# Altium integrated library TI Power Management Standard Voltage Regulator.IntLib: 214 symbols (part 6 of 7)
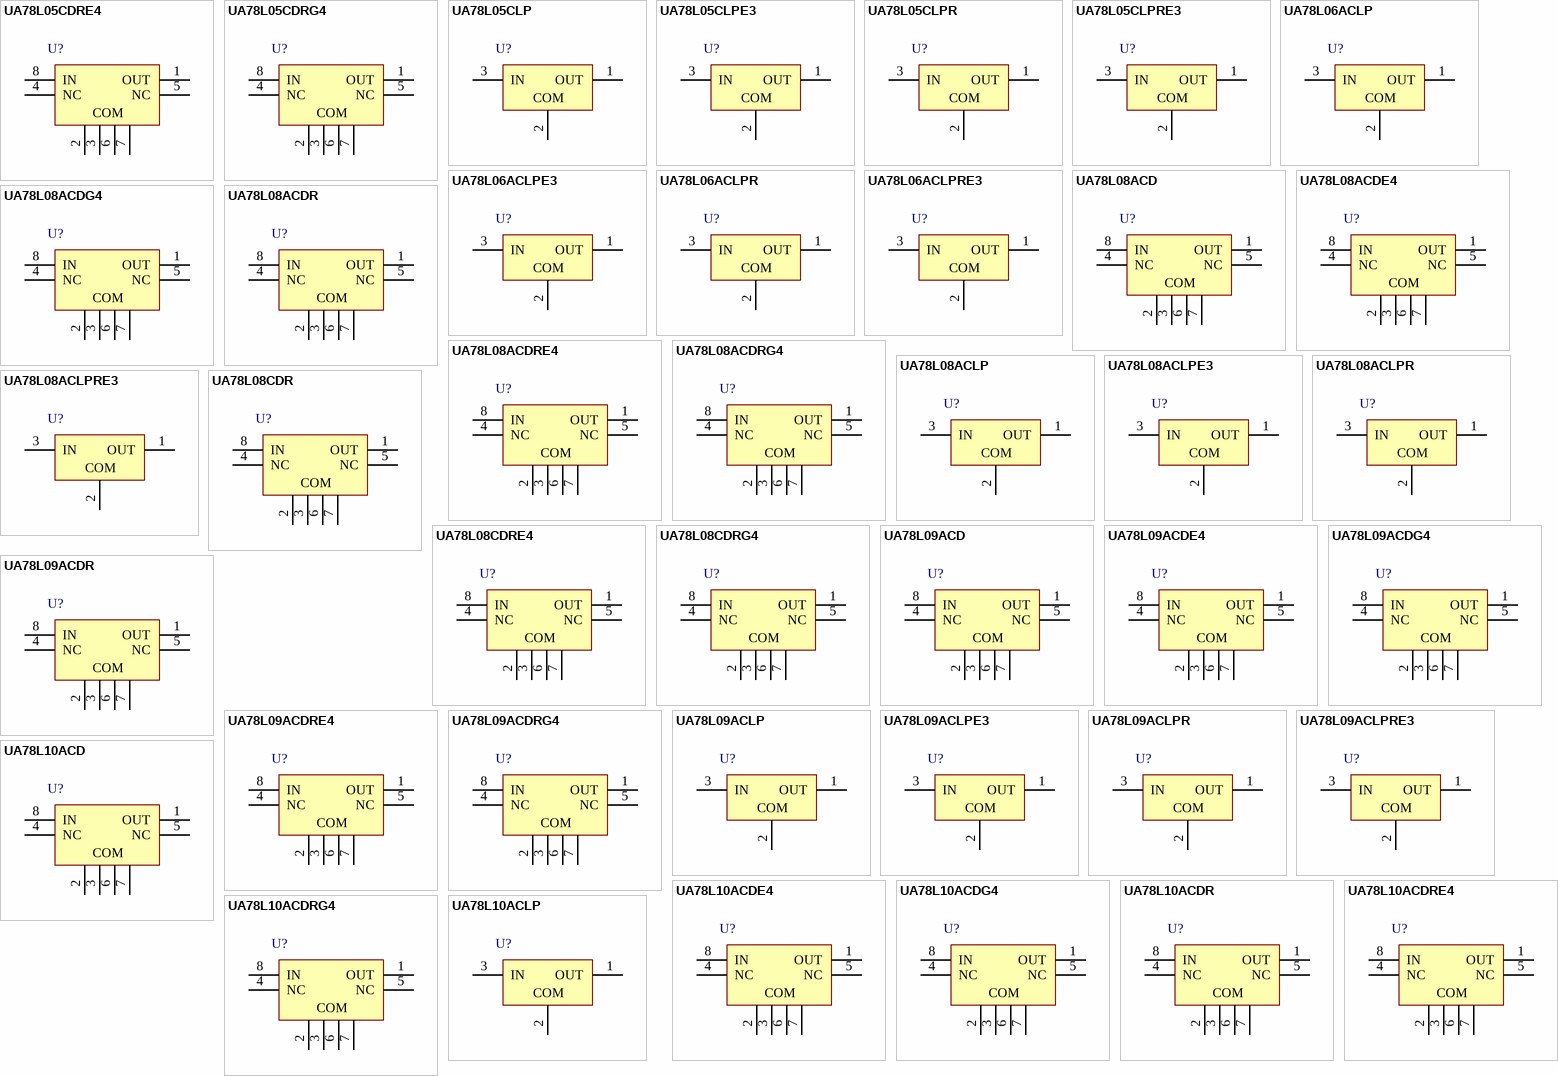
[diagram p11: symbols UA78L05CDRE4 to UA78L10ACLP]

## UA78L10ACDG4
designator U?
Regulator with 12.5 to 25 V Input and 10 V Output, 0 to 125 degC, 8-Pin SOIC (D), Green (RoHS & no Sb/Br); Manufacturer: Texas Instruments; PartNumber: UA78L10ACDG4; Iout(Max)(A): 0.1; Iq(Typ)(mA): 6; Vin(Max)(V): 25; Vin(Min)(V): 12.5; Vout(Max)(V): 10; DatasheetVersion: SLVS010S; PackageVersion: revM, Jun-2011; PackageReference: D8; PackageDescription: 8-Pin Plastic Small Outline Integrated Circuit, 4.9 x 3.9 mm, Pitch 1.27 mm Pitch; Supplier 1: Digi-Key; Supplier Part Number 1: UA78L10ACDG4-ND; Supplier 2: Newark; Supplier Part Number 2: 72K1148; Supplier 3: Mouser; Supplier Part Number 3: 595-UA78L10ACDG4; Eco-Plan: Green (RoHS & no Sb/Br); Vout(Min)(V): 10; Mounting Technology: Surface Mount; Code_JEDEC: MS-012AA; ComponentLink1Description: Datasheet; ComponentLink1URL: http://www.ti.com/general/docs/lit/getliterature.tsp?genericPartNumber=UA78L10A&fileType=pdf; ComponentLink2Description: Package Specification; ComponentLink2URL: http://www.ti.com/litv/pdf/msoi002j; ComponentLink3Description: URL Link1; ComponentLink3URL: Samples URL:http://www.ti.com/product/ua78l10a#samples
footprint D8_N (SOIC, 8-Leads, Body 4.9x3.9mm, Pitch 1.27mm, IPC Medium Density)
footprint D8_L (SOIC, 8-Leads, Body 4.9x3.9mm, Pitch 1.27mm, IPC High Density)
footprint D8_M (SOIC, 8-Leads, Body 4.9x3.9mm, Pitch 1.27mm, IPC Low Density)
pins: 1 OUT (power), 2 GND (power), 3 GND (power), 4 NC, 5 NC, 6 GND (power), 7 GND (power), 8 IN (power)
text: COM

## UA78L10ACDR
designator U?
Regulator with 12.5 to 25 V Input and 10 V Output, 0 to 125 degC, 8-Pin SOIC (D), Green (RoHS & no Sb/Br); Manufacturer: Texas Instruments; PartNumber: UA78L10ACDR; Iout(Max)(A): 0.1; Iq(Typ)(mA): 6; Vin(Max)(V): 25; Vin(Min)(V): 12.5; Vout(Max)(V): 10; DatasheetVersion: SLVS010S; PackageVersion: revM, Jun-2011; PackageReference: D8; PackageDescription: 8-Pin Plastic Small Outline Integrated Circuit, 4.9 x 3.9 mm, Pitch 1.27 mm Pitch; Supplier 1: Digi-Key; Supplier Part Number 1: 296-24391-2-ND; Supplier 2: Digi-Key; Supplier Part Number 2: 296-24391-1-ND; Supplier 3: Digi-Key; Supplier Part Number 3: 296-24391-6-ND; Supplier 4: Newark; Supplier Part Number 4: 77C1876; Supplier 5: Mouser; Supplier Part Number 5: 595-UA78L10ACDR; Eco-Plan: Green (RoHS & no Sb/Br); Vout(Min)(V): 10; Mounting Technology: Surface Mount; Code_JEDEC: MS-012AA; ComponentLink1Description: Datasheet; ComponentLink1URL: http://www.ti.com/general/docs/lit/getliterature.tsp?genericPartNumber=UA78L10A&fileType=pdf; ComponentLink2Description: Package Specification; ComponentLink2URL: http://www.ti.com/litv/pdf/msoi002j; ComponentLink3Description: URL Link1; ComponentLink3URL: Samples URL:http://www.ti.com/product/ua78l10a#samples
footprint D8_N (SOIC, 8-Leads, Body 4.9x3.9mm, Pitch 1.27mm, IPC Medium Density)
footprint D8_L (SOIC, 8-Leads, Body 4.9x3.9mm, Pitch 1.27mm, IPC High Density)
footprint D8_M (SOIC, 8-Leads, Body 4.9x3.9mm, Pitch 1.27mm, IPC Low Density)
pins: 1 OUT (power), 2 GND (power), 3 GND (power), 4 NC, 5 NC, 6 GND (power), 7 GND (power), 8 IN (power)
text: COM

## UA78L10ACDRE4
designator U?
Regulator with 12.5 to 25 V Input and 10 V Output, 0 to 125 degC, 8-Pin SOIC (D), Green (RoHS & no Sb/Br); Manufacturer: Texas Instruments; PartNumber: UA78L10ACDRE4; Iout(Max)(A): 0.1; Iq(Typ)(mA): 6; Vin(Max)(V): 25; Vin(Min)(V): 12.5; Vout(Max)(V): 10; DatasheetVersion: SLVS010S; PackageVersion: revM, Jun-2011; PackageReference: D8; PackageDescription: 8-Pin Plastic Small Outline Integrated Circuit, 4.9 x 3.9 mm, Pitch 1.27 mm Pitch; Supplier 1: Digi-Key; Supplier Part Number 1: UA78L10ACDRE4-ND; Supplier 2: Newark; Supplier Part Number 2: 37K4719; Supplier 3: Mouser; Supplier Part Number 3: 595-UA78L10ACDRE4; Eco-Plan: Green (RoHS & no Sb/Br); Vout(Min)(V): 10; Mounting Technology: Surface Mount; Code_JEDEC: MS-012AA; ComponentLink1Description: Datasheet; ComponentLink1URL: http://www.ti.com/general/docs/lit/getliterature.tsp?genericPartNumber=UA78L10A&fileType=pdf; ComponentLink2Description: Package Specification; ComponentLink2URL: http://www.ti.com/litv/pdf/msoi002j; ComponentLink3Description: URL Link1; ComponentLink3URL: Samples URL:http://www.ti.com/product/ua78l10a#samples
footprint D8_N (SOIC, 8-Leads, Body 4.9x3.9mm, Pitch 1.27mm, IPC Medium Density)
footprint D8_L (SOIC, 8-Leads, Body 4.9x3.9mm, Pitch 1.27mm, IPC High Density)
footprint D8_M (SOIC, 8-Leads, Body 4.9x3.9mm, Pitch 1.27mm, IPC Low Density)
pins: 1 OUT (power), 2 GND (power), 3 GND (power), 4 NC, 5 NC, 6 GND (power), 7 GND (power), 8 IN (power)
text: COM

## UA78L10ACDRG4
designator U?
Regulator with 12.5 to 25 V Input and 10 V Output, 0 to 125 degC, 8-Pin SOIC (D), Green (RoHS & no Sb/Br); Manufacturer: Texas Instruments; PartNumber: UA78L10ACDRG4; Iout(Max)(A): 0.1; Iq(Typ)(mA): 6; Vin(Max)(V): 25; Vin(Min)(V): 12.5; Vout(Max)(V): 10; DatasheetVersion: SLVS010S; PackageVersion: revM, Jun-2011; PackageReference: D8; PackageDescription: 8-Pin Plastic Small Outline Integrated Circuit, 4.9 x 3.9 mm, Pitch 1.27 mm Pitch; Supplier 1: Digi-Key; Supplier Part Number 1: UA78L10ACDRG4-ND; Supplier 2: Newark; Supplier Part Number 2: 72K1149; Supplier 3: Mouser; Supplier Part Number 3: 595-UA78L10ACDRG4; Eco-Plan: Green (RoHS & no Sb/Br); Vout(Min)(V): 10; Mounting Technology: Surface Mount; Code_JEDEC: MS-012AA; ComponentLink1Description: Datasheet; ComponentLink1URL: http://www.ti.com/general/docs/lit/getliterature.tsp?genericPartNumber=UA78L10A&fileType=pdf; ComponentLink2Description: Package Specification; ComponentLink2URL: http://www.ti.com/litv/pdf/msoi002j; ComponentLink3Description: URL Link1; ComponentLink3URL: Samples URL:http://www.ti.com/product/ua78l10a#samples
footprint D8_N (SOIC, 8-Leads, Body 4.9x3.9mm, Pitch 1.27mm, IPC Medium Density)
footprint D8_L (SOIC, 8-Leads, Body 4.9x3.9mm, Pitch 1.27mm, IPC High Density)
footprint D8_M (SOIC, 8-Leads, Body 4.9x3.9mm, Pitch 1.27mm, IPC Low Density)
pins: 1 OUT (power), 2 GND (power), 3 GND (power), 4 NC, 5 NC, 6 GND (power), 7 GND (power), 8 IN (power)
text: COM

## UA78L10ACLP
designator U?
Regulator with 12.5 to 25 V Input and 10 V Output, 0 to 125 degC, 3-Pin TO-92 (LP), Pb-Free (RoHS); Manufacturer: Texas Instruments; PartNumber: UA78L10ACLP; Iout(Max)(A): 0.1; Iq(Typ)(mA): 6; Vin(Max)(V): 25; Vin(Min)(V): 12.5; Vout(Max)(V): 10; DatasheetVersion: SLVS010S; PackageVersion: revC, Oct-2001; PackageReference: LP3; PackageDescription: Plastic Cylindrical Package, Formed Lead Option (TO-92); Supplier 1: Digi-Key; Supplier Part Number 1: 296-1996-ND; Supplier 2: Farnell; Supplier Part Number 2: 9593896; Supplier 3: Farnell; Supplier Part Number 3: 9593896RL; Supplier 4: Newark; Supplier Part Number 4: 14P7579; Supplier 5: Mouser; Supplier Part Number 5: 595-UA78L10ACLP; Eco-Plan: Pb-Free (RoHS); Vout(Min)(V): 10; Mounting Technology: Through Hole; Code_JEDEC: TO-226-AA; ComponentLink1Description: Datasheet; ComponentLink1URL: http://www.ti.com/general/docs/lit/getliterature.tsp?genericPartNumber=UA78L10A&fileType=pdf; ComponentLink2Description: Package Specification; ComponentLink2URL: http://www.ti.com/litv/pdf/msot002a; ComponentLink3Description: URL Link1; ComponentLink3URL: Samples URL:http://www.ti.com/product/ua78l10a#samples
footprint LP3 (TO, Flat Index; 3 In-Line, Formed Axial Leads; Body Dia. 4.8mm; Leads 0.56 x 0.41 mm (max))
pins: 1 OUT (power), 2 COM (power), 3 IN (power)

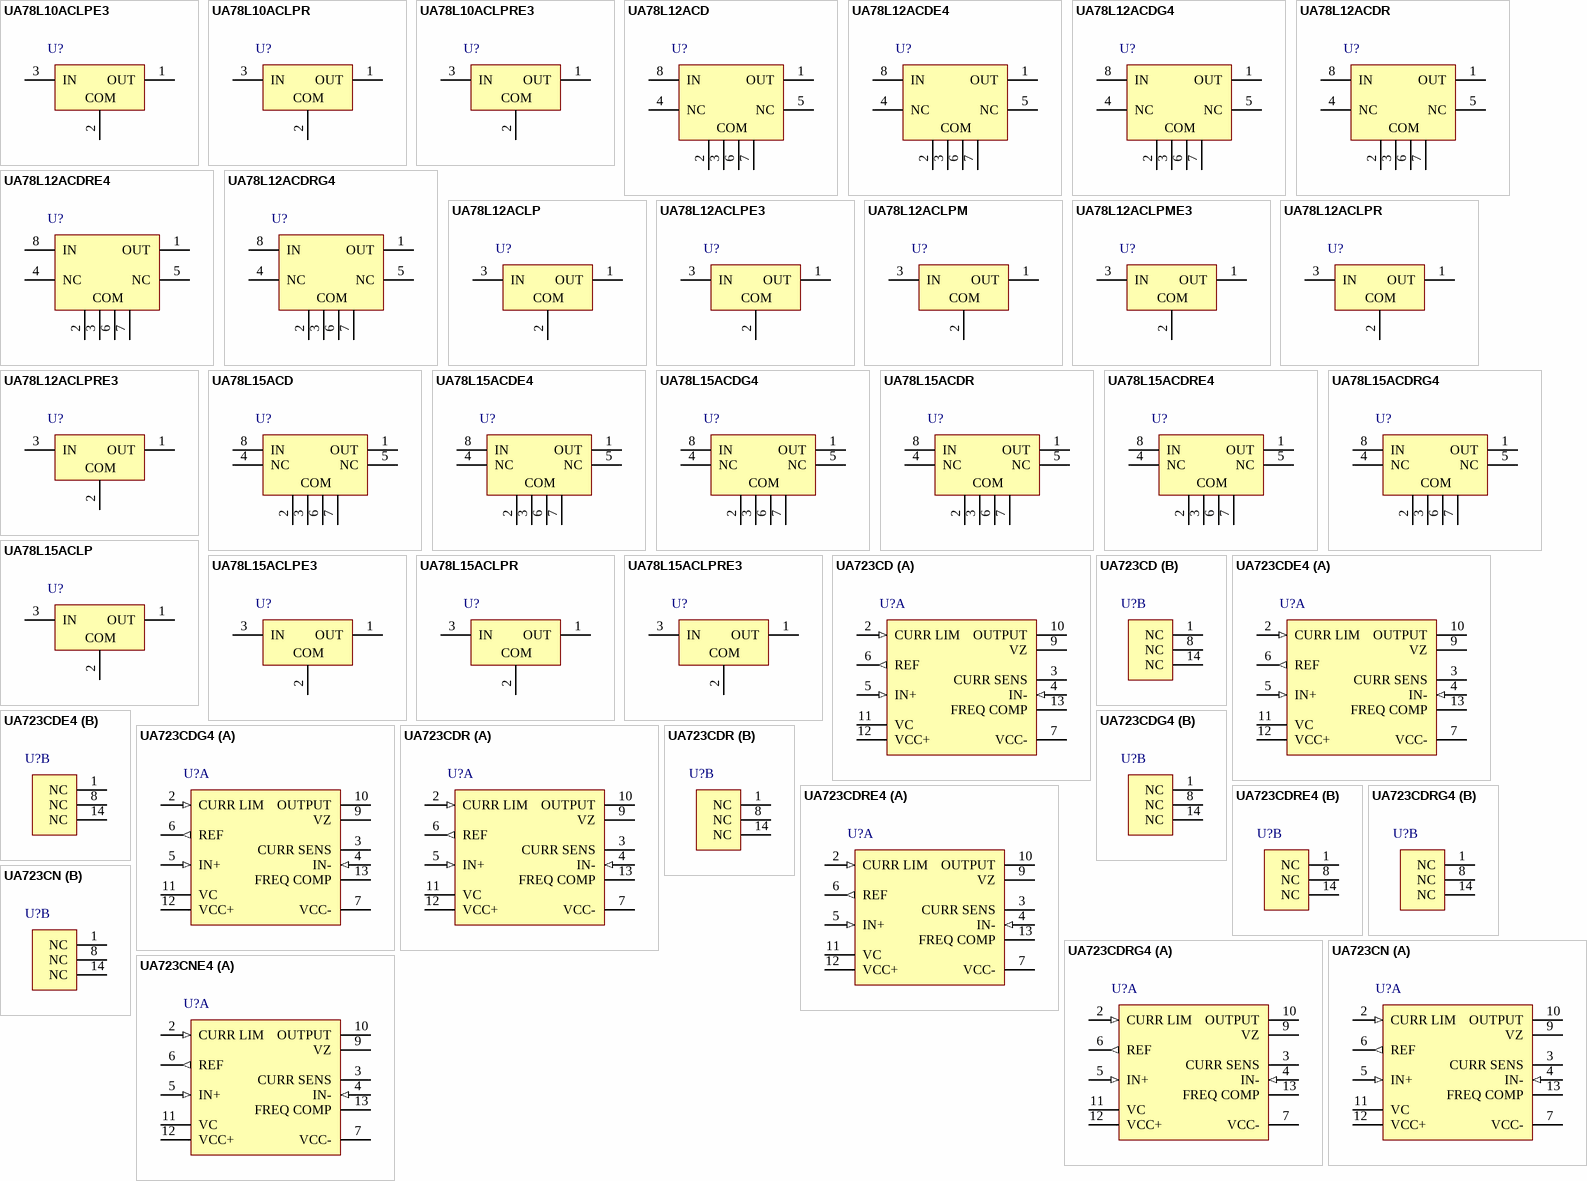
[diagram p5: symbols UA78L10ACLPE3 to UA723CNE4]

## UA78L10ACLPE3
designator U?
Regulator with 12.5 to 25 V Input and 10 V Output, 0 to 125 degC, 3-Pin TO-92 (LP), Pb-Free (RoHS); Manufacturer: Texas Instruments; PartNumber: UA78L10ACLPE3; Iout(Max)(A): 0.1; Iq(Typ)(mA): 6; Vdo(Typ)(V): 1.7; Vin(Max)(V): 25; Vin(Min)(V): 12.5; Vout(Max)(V): 10; DatasheetVersion: SLVS010S; PackageVersion: revC, Oct-2001; PackageReference: LP3; PackageDescription: Plastic Cylindrical Package, Formed Lead Option (TO-92); Supplier 1: Digi-Key; Supplier Part Number 1: UA78L10ACLPE3-ND; Supplier 2: Newark; Supplier Part Number 2: 70K5847; Supplier 3: Mouser; Supplier Part Number 3: 595-UA78L10ACLPE3; Eco-Plan: Pb-Free (RoHS); Vout(Min)(V): 10; Mounting Technology: Through Hole; Code_JEDEC: TO-226-AA; ComponentLink1Description: Datasheet; ComponentLink1URL: http://www.ti.com/general/docs/lit/getliterature.tsp?genericPartNumber=UA78L10A&fileType=pdf; ComponentLink2Description: Package Specification; ComponentLink2URL: http://www.ti.com/litv/pdf/msot002a; ComponentLink3Description: URL Link1; ComponentLink3URL: Samples URL:http://www.ti.com/product/ua78l10a#samples
footprint LP3 (TO, Flat Index; 3 In-Line, Formed Axial Leads; Body Dia. 4.8mm; Leads 0.56 x 0.41 mm (max))
pins: 1 OUT (power), 2 COM (power), 3 IN (power)

## UA78L10ACLPR
designator U?
Regulator with 12.5 to 25 V Input and 10 V Output, 0 to 125 degC, 3-Pin TO-92 (LP), Pb-Free (RoHS); Manufacturer: Texas Instruments; PartNumber: UA78L10ACLPR; Iout(Max)(A): 0.1; Iq(Typ)(mA): 6; Vin(Max)(V): 25; Vin(Min)(V): 12.5; Vout(Max)(V): 10; DatasheetVersion: SLVS010S; PackageVersion: revC, Oct-2001; PackageReference: LP3; PackageDescription: Plastic Cylindrical Package, Formed Lead Option (TO-92); Supplier 1: Digi-Key; Supplier Part Number 1: 296-31463-2-ND; Supplier 2: Digi-Key; Supplier Part Number 2: 296-31463-1-ND; Supplier 3: Newark; Supplier Part Number 3: 77C1877; Supplier 4: Mouser; Supplier Part Number 4: 595-UA78L10ACLPR; Eco-Plan: Pb-Free (RoHS); Vout(Min)(V): 10; Mounting Technology: Through Hole; Code_JEDEC: TO-226-AA; ComponentLink1Description: Datasheet; ComponentLink1URL: http://www.ti.com/general/docs/lit/getliterature.tsp?genericPartNumber=UA78L10A&fileType=pdf; ComponentLink2Description: Package Specification; ComponentLink2URL: http://www.ti.com/litv/pdf/msot002a; ComponentLink3Description: URL Link1; ComponentLink3URL: Samples URL:http://www.ti.com/product/ua78l10a#samples
footprint LP3 (TO, Flat Index; 3 In-Line, Formed Axial Leads; Body Dia. 4.8mm; Leads 0.56 x 0.41 mm (max))
pins: 1 OUT (power), 2 COM (power), 3 IN (power)

## UA78L10ACLPRE3
designator U?
Regulator with 12.5 to 25 V Input and 10 V Output, 0 to 125 degC, 3-Pin TO-92 (LP), Pb-Free (RoHS); Manufacturer: Texas Instruments; PartNumber: UA78L10ACLPRE3; Iout(Max)(A): 0.1; Iq(Typ)(mA): 6; Vin(Max)(V): 25; Vin(Min)(V): 12.5; Vout(Max)(V): 10; DatasheetVersion: SLVS010S; PackageVersion: revC, Oct-2001; PackageReference: LP3; PackageDescription: Plastic Cylindrical Package, Formed Lead Option (TO-92); Supplier 1: Digi-Key; Supplier Part Number 1: UA78L10ACLPRE3-ND; Supplier 2: Newark; Supplier Part Number 2: 70K5848; Supplier 3: Mouser; Supplier Part Number 3: 595-UA78L10ACLPRE3; Eco-Plan: Pb-Free (RoHS); Vout(Min)(V): 10; Mounting Technology: Through Hole; Code_JEDEC: TO-226-AA; ComponentLink1Description: Datasheet; ComponentLink1URL: http://www.ti.com/general/docs/lit/getliterature.tsp?genericPartNumber=UA78L10A&fileType=pdf; ComponentLink2Description: Package Specification; ComponentLink2URL: http://www.ti.com/litv/pdf/msot002a; ComponentLink3Description: URL Link1; ComponentLink3URL: Samples URL:http://www.ti.com/product/ua78l10a#samples
footprint LP3 (TO, Flat Index; 3 In-Line, Formed Axial Leads; Body Dia. 4.8mm; Leads 0.56 x 0.41 mm (max))
pins: 1 OUT (power), 2 COM (power), 3 IN (power)

## UA78L12ACD
designator U?
Fixed Regulator with 14.5 to 27 V Input and 12 V Output, 0 to 125 degC, 8-Pin SOIC (D), Green (RoHS & no Sb/Br); Manufacturer: Texas Instruments; PartNumber: UA78L12ACD; Iout(Max)(A): 0.1; Iq(Typ)(mA): 6; SubFamily: Standard Voltage Regulator; Vin(Max)(V): 27; Vin(Min)(V): 14.5; Vout(Max)(V): 12; DatasheetVersion: SLVS010S; PackageVersion: revM, Jun-2011; PackageReference: D8; PackageDescription: 8-Pin Plastic Small Outline Integrated Circuit, 4.9 x 3.9 mm, Pitch 1.27 mm Pitch; Supplier 1: Digi-Key; Supplier Part Number 1: 296-11130-5-ND; Supplier 2: Farnell; Supplier Part Number 2: 9593900; Supplier 3: Newark; Supplier Part Number 3: 98K2051; Supplier 4: Newark; Supplier Part Number 4: 09F1496; Supplier 5: Mouser; Supplier Part Number 5: 595-UA78L12ACD; Eco-Plan: Green (RoHS & no Sb/Br); Vout(Min)(V): 12; Mounting Technology: Surface Mount; Code_JEDEC: MS-012AA; ComponentLink1Description: Datasheet; ComponentLink1URL: http://www.ti.com/general/docs/lit/getliterature.tsp?genericPartNumber=UA78L12A&fileType=pdf; ComponentLink2Description: Package Specification; ComponentLink2URL: http://www.ti.com/litv/pdf/msoi002j; ComponentLink3Description: URL Link1; ComponentLink3URL: Samples URL:http://www.ti.com/product/ua79m05#samples
footprint D8_N (SOIC, 8-Leads, Body 4.9x3.9mm, Pitch 1.27mm, IPC Medium Density)
footprint D8_L (SOIC, 8-Leads, Body 4.9x3.9mm, Pitch 1.27mm, IPC High Density)
footprint D8_M (SOIC, 8-Leads, Body 4.9x3.9mm, Pitch 1.27mm, IPC Low Density)
pins: 1 OUT (power), 2 COM (power), 3 COM (power), 4 NC, 5 NC, 6 COM (power), 7 COM (power), 8 IN (power)

## UA78L12ACDE4
designator U?
Fixed Regulator with 14.5 to 27 V Input and 12 V Output, 0 to 125 degC, 8-Pin SOIC (D), Green (RoHS & no Sb/Br); Manufacturer: Texas Instruments; PartNumber: UA78L12ACDE4; Iout(Max)(A): 0.1; Iq(Typ)(mA): 6; SubFamily: Standard Voltage Regulator; Vin(Max)(V): 27; Vin(Min)(V): 14.5; Vout(Max)(V): 12; DatasheetVersion: SLVS010S; PackageVersion: revM, Jun-2011; PackageReference: D8; PackageDescription: 8-Pin Plastic Small Outline Integrated Circuit, 4.9 x 3.9 mm, Pitch 1.27 mm Pitch; Supplier 1: Digi-Key; Supplier Part Number 1: UA78L12ACDE4-ND; Supplier 2: Newark; Supplier Part Number 2: 40K9823; Supplier 3: Mouser; Supplier Part Number 3: 595-UA78L12ACDE4; Eco-Plan: Green (RoHS & no Sb/Br); Vout(Min)(V): 12; Mounting Technology: Surface Mount; Code_JEDEC: MS-012AA; ComponentLink1Description: Datasheet; ComponentLink1URL: http://www.ti.com/general/docs/lit/getliterature.tsp?genericPartNumber=UA78L12A&fileType=pdf; ComponentLink2Description: Package Specification; ComponentLink2URL: http://www.ti.com/litv/pdf/msoi002j; ComponentLink3Description: URL Link1; ComponentLink3URL: Samples URL:http://www.ti.com/product/ua79m05#samples
footprint D8_N (SOIC, 8-Leads, Body 4.9x3.9mm, Pitch 1.27mm, IPC Medium Density)
footprint D8_L (SOIC, 8-Leads, Body 4.9x3.9mm, Pitch 1.27mm, IPC High Density)
footprint D8_M (SOIC, 8-Leads, Body 4.9x3.9mm, Pitch 1.27mm, IPC Low Density)
pins: 1 OUT (power), 2 COM (power), 3 COM (power), 4 NC, 5 NC, 6 COM (power), 7 COM (power), 8 IN (power)

## UA78L12ACDG4
designator U?
Fixed Regulator with 14.5 to 27 V Input and 12 V Output, 0 to 125 degC, 8-Pin SOIC (D), Green (RoHS & no Sb/Br); Manufacturer: Texas Instruments; PartNumber: UA78L12ACDG4; Iout(Max)(A): 0.1; Iq(Typ)(mA): 6; SubFamily: Standard Voltage Regulator; Vin(Max)(V): 27; Vin(Min)(V): 14.5; Vout(Max)(V): 12; DatasheetVersion: SLVS010S; PackageVersion: revM, Jun-2011; PackageReference: D8; PackageDescription: 8-Pin Plastic Small Outline Integrated Circuit, 4.9 x 3.9 mm, Pitch 1.27 mm Pitch; Supplier 1: Digi-Key; Supplier Part Number 1: UA78L12ACDG4-ND; Supplier 2: Newark; Supplier Part Number 2: 40K9824; Supplier 3: Mouser; Supplier Part Number 3: 595-UA78L12ACDG4; Eco-Plan: Green (RoHS & no Sb/Br); Vout(Min)(V): 12; Mounting Technology: Surface Mount; Code_JEDEC: MS-012AA; ComponentLink1Description: Datasheet; ComponentLink1URL: http://www.ti.com/general/docs/lit/getliterature.tsp?genericPartNumber=UA78L12A&fileType=pdf; ComponentLink2Description: Package Specification; ComponentLink2URL: http://www.ti.com/litv/pdf/msoi002j; ComponentLink3Description: URL Link1; ComponentLink3URL: Samples URL:http://www.ti.com/product/ua79m05#samples
footprint D8_N (SOIC, 8-Leads, Body 4.9x3.9mm, Pitch 1.27mm, IPC Medium Density)
footprint D8_L (SOIC, 8-Leads, Body 4.9x3.9mm, Pitch 1.27mm, IPC High Density)
footprint D8_M (SOIC, 8-Leads, Body 4.9x3.9mm, Pitch 1.27mm, IPC Low Density)
pins: 1 OUT (power), 2 COM (power), 3 COM (power), 4 NC, 5 NC, 6 COM (power), 7 COM (power), 8 IN (power)

## UA78L12ACDR
designator U?
Fixed Regulator with 14.5 to 27 V Input and 12 V Output, 0 to 125 degC, 8-Pin SOIC (D), Green (RoHS & no Sb/Br); Manufacturer: Texas Instruments; PartNumber: UA78L12ACDR; Iout(Max)(A): 0.1; Iq(Typ)(mA): 6; SubFamily: Standard Voltage Regulator; Vin(Max)(V): 27; Vin(Min)(V): 14.5; Vout(Max)(V): 12; DatasheetVersion: SLVS010S; PackageVersion: revM, Jun-2011; PackageReference: D8; PackageDescription: 8-Pin Plastic Small Outline Integrated Circuit, 4.9 x 3.9 mm, Pitch 1.27 mm Pitch; Supplier 1: Digi-Key; Supplier Part Number 1: 296-15054-2-ND; Supplier 2: Digi-Key; Supplier Part Number 2: 296-15054-1-ND; Supplier 3: Digi-Key; Supplier Part Number 3: 296-15054-6-ND; Supplier 4: Newark; Supplier Part Number 4: 77C1879; Supplier 5: Mouser; Supplier Part Number 5: 595-UA78L12ACDR; Eco-Plan: Green (RoHS & no Sb/Br); Vout(Min)(V): 12; Mounting Technology: Surface Mount; Code_JEDEC: MS-012AA; ComponentLink1Description: Datasheet; ComponentLink1URL: http://www.ti.com/general/docs/lit/getliterature.tsp?genericPartNumber=UA78L12A&fileType=pdf; ComponentLink2Description: Package Specification; ComponentLink2URL: http://www.ti.com/litv/pdf/msoi002j; ComponentLink3Description: URL Link1; ComponentLink3URL: Samples URL:http://www.ti.com/product/ua79m05#samples
footprint D8_N (SOIC, 8-Leads, Body 4.9x3.9mm, Pitch 1.27mm, IPC Medium Density)
footprint D8_L (SOIC, 8-Leads, Body 4.9x3.9mm, Pitch 1.27mm, IPC High Density)
footprint D8_M (SOIC, 8-Leads, Body 4.9x3.9mm, Pitch 1.27mm, IPC Low Density)
pins: 1 OUT (power), 2 COM (power), 3 COM (power), 4 NC, 5 NC, 6 COM (power), 7 COM (power), 8 IN (power)

## UA78L12ACDRE4
designator U?
Fixed Regulator with 14.5 to 27 V Input and 12 V Output, 0 to 125 degC, 8-Pin SOIC (D), Green (RoHS & no Sb/Br); Manufacturer: Texas Instruments; PartNumber: UA78L12ACDRE4; Iout(Max)(A): 0.1; Iq(Typ)(mA): 6; SubFamily: Standard Voltage Regulator; Vin(Max)(V): 27; Vin(Min)(V): 14.5; Vout(Max)(V): 12; DatasheetVersion: SLVS010S; PackageVersion: revM, Jun-2011; PackageReference: D8; PackageDescription: 8-Pin Plastic Small Outline Integrated Circuit, 4.9 x 3.9 mm, Pitch 1.27 mm Pitch; Supplier 1: Digi-Key; Supplier Part Number 1: UA78L12ACDRE4-ND; Supplier 2: Newark; Supplier Part Number 2: 40K9825; Supplier 3: Mouser; Supplier Part Number 3: 595-UA78L12ACDRE4; Eco-Plan: Green (RoHS & no Sb/Br); Vout(Min)(V): 12; Mounting Technology: Surface Mount; Code_JEDEC: MS-012AA; ComponentLink1Description: Datasheet; ComponentLink1URL: http://www.ti.com/general/docs/lit/getliterature.tsp?genericPartNumber=UA78L12A&fileType=pdf; ComponentLink2Description: Package Specification; ComponentLink2URL: http://www.ti.com/litv/pdf/msoi002j; ComponentLink3Description: URL Link1; ComponentLink3URL: Samples URL:http://www.ti.com/product/ua78l12a
footprint D8_N (SOIC, 8-Leads, Body 4.9x3.9mm, Pitch 1.27mm, IPC Medium Density)
footprint D8_L (SOIC, 8-Leads, Body 4.9x3.9mm, Pitch 1.27mm, IPC High Density)
footprint D8_M (SOIC, 8-Leads, Body 4.9x3.9mm, Pitch 1.27mm, IPC Low Density)
pins: 1 OUT (power), 2 COM (power), 3 COM (power), 4 NC, 5 NC, 6 COM (power), 7 COM (power), 8 IN (power)

## UA78L12ACDRG4
designator U?
Fixed Regulator with 14.5 to 27 V Input and 12 V Output, 0 to 125 degC, 8-Pin SOIC (D), Green (RoHS & no Sb/Br); Manufacturer: Texas Instruments; PartNumber: UA78L12ACDRG4; Iout(Max)(A): 0.1; Iq(Typ)(mA): 6; SubFamily: Standard Voltage Regulator; Vin(Max)(V): 27; Vin(Min)(V): 14.5; Vout(Max)(V): 12; DatasheetVersion: SLVS010S; PackageVersion: revM, Jun-2011; PackageReference: D8; PackageDescription: 8-Pin Plastic Small Outline Integrated Circuit, 4.9 x 3.9 mm, Pitch 1.27 mm Pitch; Supplier 1: Digi-Key; Supplier Part Number 1: UA78L12ACDRG4-ND; Supplier 2: Newark; Supplier Part Number 2: 40K9826; Supplier 3: Mouser; Supplier Part Number 3: 595-UA78L12ACDRG4; Eco-Plan: Green (RoHS & no Sb/Br); Vout(Min)(V): 12; Mounting Technology: Surface Mount; Code_JEDEC: MS-012AA; ComponentLink1Description: Datasheet; ComponentLink1URL: http://www.ti.com/general/docs/lit/getliterature.tsp?genericPartNumber=UA78L12A&fileType=pdf; ComponentLink2Description: Package Specification; ComponentLink2URL: http://www.ti.com/litv/pdf/msoi002j; ComponentLink3Description: URL Link1; ComponentLink3URL: Samples URL:http://www.ti.com/product/ua79m05#samples
footprint D8_N (SOIC, 8-Leads, Body 4.9x3.9mm, Pitch 1.27mm, IPC Medium Density)
footprint D8_L (SOIC, 8-Leads, Body 4.9x3.9mm, Pitch 1.27mm, IPC High Density)
footprint D8_M (SOIC, 8-Leads, Body 4.9x3.9mm, Pitch 1.27mm, IPC Low Density)
pins: 1 OUT (power), 2 COM (power), 3 COM (power), 4 NC, 5 NC, 6 COM (power), 7 COM (power), 8 IN (power)

## UA78L12ACLP
designator U?
Regulator with 14.5 to 27 V Input and 12 V Output, 0 to 125 degC, 3-Pin TO-92 (LP), Pb-Free (RoHS); Manufacturer: Texas Instruments; PartNumber: UA78L12ACLP; Iout(Max)(A): 0.1; Iq(Typ)(mA): 6; SubFamily: Standard Voltage Regulator; Vin(Max)(V): 27; Vin(Min)(V): 14.5; Vout(Max)(V): 12; DatasheetVersion: SLVS010S; PackageVersion: revC, Oct-2001; PackageReference: LP3; PackageDescription: Plastic Cylindrical Package, Formed Lead Option (TO-92); Supplier 1: Digi-Key; Supplier Part Number 1: 296-11131-5-ND; Supplier 2: Newark; Supplier Part Number 2: 09F1497; Supplier 3: Mouser; Supplier Part Number 3: 595-UA78L12ACLP; Eco-Plan: Pb-Free (RoHS); Vout(Min)(V): 12; Mounting Technology: Through Hole; Code_JEDEC: TO-226-AA; ComponentLink1Description: Datasheet; ComponentLink1URL: http://www.ti.com/general/docs/lit/getliterature.tsp?genericPartNumber=UA78L12A&fileType=pdf; ComponentLink2Description: Package Specification; ComponentLink2URL: http://www.ti.com/litv/pdf/msot002a; ComponentLink3Description: URL Link1; ComponentLink3URL: Samples URL:http://www.ti.com/product/ua79m05#samples
footprint LP3 (TO, Flat Index; 3 In-Line, Formed Axial Leads; Body Dia. 4.8mm; Leads 0.56 x 0.41 mm (max))
pins: 1 OUT (power), 2 COM (power), 3 IN (power)

## UA78L12ACLPE3
designator U?
Regulator with 14.5 to 27 V Input and 12 V Output, 0 to 125 degC, 3-Pin TO-92 (LP), Pb-Free (RoHS); Manufacturer: Texas Instruments; PartNumber: UA78L12ACLPE3; Iout(Max)(A): 0.1; Iq(Typ)(mA): 6; SubFamily: Standard Voltage Regulator; Vin(Max)(V): 27; Vin(Min)(V): 14.5; Vout(Max)(V): 12; DatasheetVersion: SLVS010S; PackageVersion: revC, Oct-2001; PackageReference: LP3; PackageDescription: Plastic Cylindrical Package, Formed Lead Option (TO-92); Supplier 1: Digi-Key; Supplier Part Number 1: UA78L12ACLPE3-ND; Supplier 2: Farnell; Supplier Part Number 2: 1236595; Supplier 3: Newark; Supplier Part Number 3: 13M5629; Supplier 4: Newark; Supplier Part Number 4: 70K5849; Supplier 5: Mouser; Supplier Part Number 5: 595-UA78L12ACLPE3; Eco-Plan: Pb-Free (RoHS); Vout(Min)(V): 12; Mounting Technology: Through Hole; Code_JEDEC: TO-226-AA; ComponentLink1Description: Datasheet; ComponentLink1URL: http://www.ti.com/general/docs/lit/getliterature.tsp?genericPartNumber=UA78L12A&fileType=pdf; ComponentLink2Description: Package Specification; ComponentLink2URL: http://www.ti.com/litv/pdf/msot002a; ComponentLink3Description: URL Link1; ComponentLink3URL: Samples URL:http://www.ti.com/product/ua79m05#samples
footprint LP3 (TO, Flat Index; 3 In-Line, Formed Axial Leads; Body Dia. 4.8mm; Leads 0.56 x 0.41 mm (max))
pins: 1 OUT (power), 2 COM (power), 3 IN (power)

## UA78L12ACLPM
designator U?
Regulator with 14.5 to 27 V Input and 12 V Output, 0 to 125 degC, 3-Pin TO-92 (LP), Pb-Free (RoHS); Manufacturer: Texas Instruments; PartNumber: UA78L12ACLPM; Iout(Max)(A): 0.1; Iq(Typ)(mA): 6; SubFamily: Standard Voltage Regulator; Vin(Max)(V): 27; Vin(Min)(V): 14.5; Vout(Max)(V): 12; DatasheetVersion: SLVS010S; PackageVersion: revC, Oct-2001; PackageReference: LP3; PackageDescription: Plastic Cylindrical Package, Formed Lead Option (TO-92); Supplier 1: Digi-Key; Supplier Part Number 1: 296-31448-3-ND; Supplier 2: Digi-Key; Supplier Part Number 2: 296-31448-1-ND; Supplier 3: Mouser; Supplier Part Number 3: 595-UA78L12ACLPM; Eco-Plan: Pb-Free (RoHS); Vout(Min)(V): 12; Mounting Technology: Through Hole; Code_JEDEC: TO-226-AA; ComponentLink1Description: Datasheet; ComponentLink1URL: http://www.ti.com/general/docs/lit/getliterature.tsp?genericPartNumber=UA78L12A&fileType=pdf; ComponentLink2Description: Package Specification; ComponentLink2URL: http://www.ti.com/litv/pdf/msot002a; ComponentLink3Description: URL Link1; ComponentLink3URL: Samples URL:http://www.ti.com/product/ua79m05#samples
footprint LP3 (TO, Flat Index; 3 In-Line, Formed Axial Leads; Body Dia. 4.8mm; Leads 0.56 x 0.41 mm (max))
pins: 1 OUT (power), 2 COM (power), 3 IN (power)

## UA78L12ACLPME3
designator U?
Regulator with 14.5 to 27 V Input and 12 V Output, 0 to 125 degC, 3-Pin TO-92 (LP), Pb-Free (RoHS); Manufacturer: Texas Instruments; PartNumber: UA78L12ACLPME3; Iout(Max)(A): 0.1; Iq(Typ)(mA): 6; SubFamily: Standard Voltage Regulator; Vin(Max)(V): 27; Vin(Min)(V): 14.5; Vout(Max)(V): 12; DatasheetVersion: SLVS010S; PackageVersion: revC, Oct-2001; PackageReference: LP3; PackageDescription: Plastic Cylindrical Package, Formed Lead Option (TO-92); Supplier 1: Digi-Key; Supplier Part Number 1: UA78L12ACLPME3-ND; Supplier 2: Mouser; Supplier Part Number 2: 595-UA78L12ACLPME3; Eco-Plan: Pb-Free (RoHS); Vout(Min)(V): 12; Mounting Technology: Through Hole; Code_JEDEC: TO-226-AA; ComponentLink1Description: Datasheet; ComponentLink1URL: http://www.ti.com/general/docs/lit/getliterature.tsp?genericPartNumber=UA78L12A&fileType=pdf; ComponentLink2Description: Package Specification; ComponentLink2URL: http://www.ti.com/litv/pdf/msot002a; ComponentLink3Description: URL Link1; ComponentLink3URL: Samples URL:http://www.ti.com/product/ua79m05#samples
footprint LP3 (TO, Flat Index; 3 In-Line, Formed Axial Leads; Body Dia. 4.8mm; Leads 0.56 x 0.41 mm (max))
pins: 1 OUT (power), 2 COM (power), 3 IN (power)

## UA78L12ACLPR
designator U?
Regulator with 14.5 to 27 V Input and 12 V Output, 0 to 125 degC, 3-Pin TO-92 (LP), Pb-Free (RoHS); Manufacturer: Texas Instruments; PartNumber: UA78L12ACLPR; Iout(Max)(A): 0.1; Iq(Typ)(mA): 6; SubFamily: Standard Voltage Regulator; Vin(Max)(V): 27; Vin(Min)(V): 14.5; Vout(Max)(V): 12; DatasheetVersion: SLVS010S; PackageVersion: revC, Oct-2001; PackageReference: LP3; PackageDescription: Plastic Cylindrical Package, Formed Lead Option (TO-92); Supplier 1: Digi-Key; Supplier Part Number 1: 296-24392-2-ND; Supplier 2: Digi-Key; Supplier Part Number 2: 296-24392-1-ND; Supplier 3: Newark; Supplier Part Number 3: 77C1880; Supplier 4: Mouser; Supplier Part Number 4: 595-UA78L12ACLPR; Eco-Plan: Pb-Free (RoHS); Vout(Min)(V): 12; Mounting Technology: Through Hole; Code_JEDEC: TO-226-AA; ComponentLink1Description: Datasheet; ComponentLink1URL: http://www.ti.com/general/docs/lit/getliterature.tsp?genericPartNumber=UA78L12A&fileType=pdf; ComponentLink2Description: Package Specification; ComponentLink2URL: http://www.ti.com/litv/pdf/msot002a; ComponentLink3Description: URL Link1; ComponentLink3URL: Samples URL:http://www.ti.com/product/ua79m05#samples
footprint LP3 (TO, Flat Index; 3 In-Line, Formed Axial Leads; Body Dia. 4.8mm; Leads 0.56 x 0.41 mm (max))
pins: 1 OUT (power), 2 COM (power), 3 IN (power)

## UA78L12ACLPRE3
designator U?
Regulator with 14.5 to 27 V Input and 12 V Output, 0 to 125 degC, 3-Pin TO-92 (LP), Pb-Free (RoHS); Manufacturer: Texas Instruments; PartNumber: UA78L12ACLPRE3; Iout(Max)(A): 0.1; Iq(Typ)(mA): 6; SubFamily: Standard Voltage Regulator; Vin(Max)(V): 27; Vin(Min)(V): 14.5; Vout(Max)(V): 12; DatasheetVersion: SLVS010S; PackageVersion: revC, Oct-2001; PackageReference: LP3; PackageDescription: Plastic Cylindrical Package, Formed Lead Option (TO-92); Supplier 1: Digi-Key; Supplier Part Number 1: UA78L12ACLPRE3-ND; Supplier 2: Newark; Supplier Part Number 2: 70K5850; Supplier 3: Mouser; Supplier Part Number 3: 595-UA78L12ACLPRE3; Eco-Plan: Pb-Free (RoHS); Vout(Min)(V): 12; Mounting Technology: Through Hole; Code_JEDEC: TO-226-AA; ComponentLink1Description: Datasheet; ComponentLink1URL: http://www.ti.com/general/docs/lit/getliterature.tsp?genericPartNumber=UA78L12A&fileType=pdf; ComponentLink2Description: Package Specification; ComponentLink2URL: http://www.ti.com/litv/pdf/msot002a; ComponentLink3Description: URL Link1; ComponentLink3URL: Samples URL:http://www.ti.com/product/ua78l12a
footprint LP3 (TO, Flat Index; 3 In-Line, Formed Axial Leads; Body Dia. 4.8mm; Leads 0.56 x 0.41 mm (max))
pins: 1 OUT (power), 2 COM (power), 3 IN (power)

## UA78L15ACD
designator U?
Fixed Regulator with 17.5 to 30 V Input and 15 V Output, 0 to 125 degC, 8-Pin SOIC (D), Green (RoHS & no Sb/Br); Manufacturer: Texas Instruments; PartNumber: UA78L15ACD; Iout(Max)(A): 0.1; Iq(Typ)(mA): 6; Vin(Max)(V): 30; Vin(Min)(V): 17.5; Vout(Max)(V): 15; DatasheetVersion: SLVS010S; PackageVersion: revM, Jun-2011; PackageReference: D8; PackageDescription: 8-Pin Plastic Small Outline Integrated Circuit, 4.9 x 3.9 mm, Pitch 1.27 mm Pitch; Supplier 1: Digi-Key; Supplier Part Number 1: 296-27136-5-ND; Supplier 2: Newark; Supplier Part Number 2: 09F1499; Supplier 3: Mouser; Supplier Part Number 3: 595-UA78L15ACD; Eco-Plan: Green (RoHS & no Sb/Br); Vout(Min)(V): 15; Mounting Technology: Surface Mount; Code_JEDEC: MS-012AA; ComponentLink1Description: Datasheet; ComponentLink1URL: http://www.ti.com/general/docs/lit/getliterature.tsp?genericPartNumber=UA78L15A&fileType=pdf; ComponentLink2Description: Package Specification; ComponentLink2URL: http://www.ti.com/litv/pdf/msoi002j; ComponentLink3Description: URL Link1; ComponentLink3URL: Samples URL:http://www.ti.com/product/ua79m05#samples
footprint D8_N (SOIC, 8-Leads, Body 4.9x3.9mm, Pitch 1.27mm, IPC Medium Density)
footprint D8_L (SOIC, 8-Leads, Body 4.9x3.9mm, Pitch 1.27mm, IPC High Density)
footprint D8_M (SOIC, 8-Leads, Body 4.9x3.9mm, Pitch 1.27mm, IPC Low Density)
pins: 1 OUT (power), 2 COM (power), 3 COM (power), 4 NC, 5 NC, 6 COM (power), 7 COM (power), 8 IN (power)

## UA78L15ACDE4
designator U?
Fixed Regulator with 17.5 to 30 V Input and 15 V Output, 0 to 125 degC, 8-Pin SOIC (D), Green (RoHS & no Sb/Br); Manufacturer: Texas Instruments; PartNumber: UA78L15ACDE4; Iout(Max)(A): 0.1; Iq(Typ)(mA): 6; SubFamily: Standard Voltage Regulator; Vin(Max)(V): 30; Vin(Min)(V): 17.5; Vout(Max)(V): 15; DatasheetVersion: SLVS010S; PackageVersion: revM, Jun-2011; PackageReference: D8; PackageDescription: 8-Pin Plastic Small Outline Integrated Circuit, 4.9 x 3.9 mm, Pitch 1.27 mm Pitch; Supplier 1: Digi-Key; Supplier Part Number 1: UA78L15ACDE4-ND; Supplier 2: Newark; Supplier Part Number 2: 37K4720; Supplier 3: Mouser; Supplier Part Number 3: 595-UA78L15ACDE4; Eco-Plan: Green (RoHS & no Sb/Br); Vout(Min)(V): 15; Mounting Technology: Surface Mount; Code_JEDEC: MS-012AA; ComponentLink1Description: Datasheet; ComponentLink1URL: http://www.ti.com/general/docs/lit/getliterature.tsp?genericPartNumber=UA78L15A&fileType=pdf; ComponentLink2Description: Package Specification; ComponentLink2URL: http://www.ti.com/litv/pdf/msoi002j; ComponentLink3Description: URL Link1; ComponentLink3URL: Samples URL:http://www.ti.com/product/ua79m05#samples
footprint D8_N (SOIC, 8-Leads, Body 4.9x3.9mm, Pitch 1.27mm, IPC Medium Density)
footprint D8_L (SOIC, 8-Leads, Body 4.9x3.9mm, Pitch 1.27mm, IPC High Density)
footprint D8_M (SOIC, 8-Leads, Body 4.9x3.9mm, Pitch 1.27mm, IPC Low Density)
pins: 1 OUT (power), 2 COM (power), 3 COM (power), 4 NC, 5 NC, 6 COM (power), 7 COM (power), 8 IN (power)

## UA78L15ACDG4
designator U?
Fixed Regulator with 17.5 to 30 V Input and 15 V Output, 0 to 125 degC, 8-Pin SOIC (D), Green (RoHS & no Sb/Br); Manufacturer: Texas Instruments; PartNumber: UA78L15ACDG4; Iout(Max)(A): 0.1; Iq(Typ)(mA): 6; SubFamily: Standard Voltage Regulator; Vin(Max)(V): 30; Vin(Min)(V): 17.5; Vout(Max)(V): 15; DatasheetVersion: SLVS010S; PackageVersion: revM, Jun-2011; PackageReference: D8; PackageDescription: 8-Pin Plastic Small Outline Integrated Circuit, 4.9 x 3.9 mm, Pitch 1.27 mm Pitch; Supplier 1: Digi-Key; Supplier Part Number 1: UA78L15ACDG4-ND; Supplier 2: Newark; Supplier Part Number 2: 41M6400; Supplier 3: Mouser; Supplier Part Number 3: 595-UA78L15ACDG4; Eco-Plan: Green (RoHS & no Sb/Br); Vout(Min)(V): 15; Mounting Technology: Surface Mount; Code_JEDEC: MS-012AA; ComponentLink1Description: Datasheet; ComponentLink1URL: http://www.ti.com/general/docs/lit/getliterature.tsp?genericPartNumber=UA78L15A&fileType=pdf; ComponentLink2Description: Package Specification; ComponentLink2URL: http://www.ti.com/litv/pdf/msoi002j; ComponentLink3Description: URL Link1; ComponentLink3URL: Samples URL:http://www.ti.com/product/ua79m05#samples
footprint D8_N (SOIC, 8-Leads, Body 4.9x3.9mm, Pitch 1.27mm, IPC Medium Density)
footprint D8_L (SOIC, 8-Leads, Body 4.9x3.9mm, Pitch 1.27mm, IPC High Density)
footprint D8_M (SOIC, 8-Leads, Body 4.9x3.9mm, Pitch 1.27mm, IPC Low Density)
pins: 1 OUT (power), 2 COM (power), 3 COM (power), 4 NC, 5 NC, 6 COM (power), 7 COM (power), 8 IN (power)

## UA78L15ACDR
designator U?
Fixed Regulator with 17.5 to 30 V Input and 15 V Output, 0 to 125 degC, 8-Pin SOIC (D), Green (RoHS & no Sb/Br); Manufacturer: Texas Instruments; PartNumber: UA78L15ACDR; Iout(Max)(A): 0.1; Iq(Typ)(mA): 6; SubFamily: Standard Voltage Regulator; Vin(Max)(V): 30; Vin(Min)(V): 17.5; Vout(Max)(V): 15; DatasheetVersion: SLVS010S; PackageVersion: revM, Jun-2011; PackageReference: D8; PackageDescription: 8-Pin Plastic Small Outline Integrated Circuit, 4.9 x 3.9 mm, Pitch 1.27 mm Pitch; Supplier 1: Digi-Key; Supplier Part Number 1: 296-27137-2-ND; Supplier 2: Digi-Key; Supplier Part Number 2: 296-27137-1-ND; Supplier 3: Digi-Key; Supplier Part Number 3: 296-27137-6-ND; Supplier 4: Newark; Supplier Part Number 4: 77C1882; Supplier 5: Mouser; Supplier Part Number 5: 595-UA78L15ACDR; Eco-Plan: Green (RoHS & no Sb/Br); Vout(Min)(V): 15; Mounting Technology: Surface Mount; Code_JEDEC: MS-012AA; ComponentLink1Description: Datasheet; ComponentLink1URL: http://www.ti.com/general/docs/lit/getliterature.tsp?genericPartNumber=UA78L15A&fileType=pdf; ComponentLink2Description: Package Specification; ComponentLink2URL: http://www.ti.com/litv/pdf/msoi002j; ComponentLink3Description: URL Link1; ComponentLink3URL: Samples URL:http://www.ti.com/product/ua79m05#samples
footprint D8_N (SOIC, 8-Leads, Body 4.9x3.9mm, Pitch 1.27mm, IPC Medium Density)
footprint D8_L (SOIC, 8-Leads, Body 4.9x3.9mm, Pitch 1.27mm, IPC High Density)
footprint D8_M (SOIC, 8-Leads, Body 4.9x3.9mm, Pitch 1.27mm, IPC Low Density)
pins: 1 OUT (power), 2 COM (power), 3 COM (power), 4 NC, 5 NC, 6 COM (power), 7 COM (power), 8 IN (power)

## UA78L15ACDRE4
designator U?
Fixed Regulator with 17.5 to 30 V Input and 15 V Output, 0 to 125 degC, 8-Pin SOIC (D), Green (RoHS & no Sb/Br); Manufacturer: Texas Instruments; PartNumber: UA78L15ACDRE4; Iout(Max)(A): 0.1; Iq(Typ)(mA): 6; SubFamily: Standard Voltage Regulator; Vin(Max)(V): 30; Vin(Min)(V): 17.5; Vout(Max)(V): 15; DatasheetVersion: SLVS010S; PackageVersion: revM, Jun-2011; PackageReference: D8; PackageDescription: 8-Pin Plastic Small Outline Integrated Circuit, 4.9 x 3.9 mm, Pitch 1.27 mm Pitch; Supplier 1: Digi-Key; Supplier Part Number 1: UA78L15ACDRE4-ND; Supplier 2: Newark; Supplier Part Number 2: 37K4721; Supplier 3: Mouser; Supplier Part Number 3: 595-UA78L15ACDRE4; Eco-Plan: Green (RoHS & no Sb/Br); Vout(Min)(V): 15; Mounting Technology: Surface Mount; Code_JEDEC: MS-012AA; ComponentLink1Description: Datasheet; ComponentLink1URL: http://www.ti.com/general/docs/lit/getliterature.tsp?genericPartNumber=UA78L15A&fileType=pdf; ComponentLink2Description: Package Specification; ComponentLink2URL: http://www.ti.com/litv/pdf/msoi002j; ComponentLink3Description: URL Link1; ComponentLink3URL: Samples URL:http://www.ti.com/product/ua79m05#samples
footprint D8_N (SOIC, 8-Leads, Body 4.9x3.9mm, Pitch 1.27mm, IPC Medium Density)
footprint D8_L (SOIC, 8-Leads, Body 4.9x3.9mm, Pitch 1.27mm, IPC High Density)
footprint D8_M (SOIC, 8-Leads, Body 4.9x3.9mm, Pitch 1.27mm, IPC Low Density)
pins: 1 OUT (power), 2 COM (power), 3 COM (power), 4 NC, 5 NC, 6 COM (power), 7 COM (power), 8 IN (power)

## UA78L15ACDRG4
designator U?
Fixed Regulator with 17.5 to 30 V Input and 15 V Output, 0 to 125 degC, 8-Pin SOIC (D), Green (RoHS & no Sb/Br); Manufacturer: Texas Instruments; PartNumber: UA78L15ACDRG4; Iout(Max)(A): 0.1; Iq(Typ)(mA): 6; SubFamily: Standard Voltage Regulator; Vin(Max)(V): 30; Vin(Min)(V): 17.5; Vout(Max)(V): 15; DatasheetVersion: SLVS010S; PackageVersion: revM, Jun-2011; PackageReference: D8; PackageDescription: 8-Pin Plastic Small Outline Integrated Circuit, 4.9 x 3.9 mm, Pitch 1.27 mm Pitch; Supplier 1: Digi-Key; Supplier Part Number 1: UA78L15ACDRG4-ND; Supplier 2: Newark; Supplier Part Number 2: 41M6401; Supplier 3: Mouser; Supplier Part Number 3: 595-UA78L15ACDRG4; Eco-Plan: Green (RoHS & no Sb/Br); Vout(Min)(V): 15; Mounting Technology: Surface Mount; Code_JEDEC: MS-012AA; ComponentLink1Description: Datasheet; ComponentLink1URL: http://www.ti.com/general/docs/lit/getliterature.tsp?genericPartNumber=UA78L15A&fileType=pdf; ComponentLink2Description: Package Specification; ComponentLink2URL: http://www.ti.com/litv/pdf/msoi002j; ComponentLink3Description: URL Link1; ComponentLink3URL: Samples URL:http://www.ti.com/product/ua79m05#samples
footprint D8_N (SOIC, 8-Leads, Body 4.9x3.9mm, Pitch 1.27mm, IPC Medium Density)
footprint D8_L (SOIC, 8-Leads, Body 4.9x3.9mm, Pitch 1.27mm, IPC High Density)
footprint D8_M (SOIC, 8-Leads, Body 4.9x3.9mm, Pitch 1.27mm, IPC Low Density)
pins: 1 OUT (power), 2 COM (power), 3 COM (power), 4 NC, 5 NC, 6 COM (power), 7 COM (power), 8 IN (power)

## UA78L15ACLP
designator U?
Fixed Regulator with 17.5 to 30 V Input and 15 V Output, 0 to 125 degC, 3-Pin TO-92 (LP), Pb-Free (RoHS); Manufacturer: Texas Instruments; PartNumber: UA78L15ACLP; Iout(Max)(A): 0.1; Iq(Typ)(mA): 6; SubFamily: Standard Voltage Regulator; Vin(Max)(V): 30; Vin(Min)(V): 17.5; Vout(Max)(V): 15; DatasheetVersion: SLVS010S; PackageVersion: revC, Oct-2001; PackageReference: LP3; PackageDescription: Plastic Cylindrical Package, Formed Lead Option (TO-92); Supplier 1: Digi-Key; Supplier Part Number 1: 296-11133-ND; Supplier 2: Farnell; Supplier Part Number 2: 2132700; Supplier 3: Newark; Supplier Part Number 3: 14P7580; Supplier 4: Mouser; Supplier Part Number 4: 595-UA78L15ACLP; Eco-Plan: Pb-Free (RoHS); Vout(Min)(V): 15; Mounting Technology: Through Hole; Code_JEDEC: TO-226-AA; ComponentLink1Description: Datasheet; ComponentLink1URL: http://www.ti.com/general/docs/lit/getliterature.tsp?genericPartNumber=UA78L15A&fileType=pdf; ComponentLink2Description: Package Specification; ComponentLink2URL: http://www.ti.com/litv/pdf/msot002a; ComponentLink3Description: URL Link1; ComponentLink3URL: Samples URL:http://www.ti.com/product/ua79m05#samples
footprint LP3 (TO, Flat Index; 3 In-Line, Formed Axial Leads; Body Dia. 4.8mm; Leads 0.56 x 0.41 mm (max))
pins: 1 OUT (power), 2 COM (power), 3 IN (power)

## UA78L15ACLPE3
designator U?
Fixed Regulator with 17.5 to 30 V Input and 15 V Output, 0 to 125 degC, 3-Pin TO-92 (LP), Pb-Free (RoHS); Manufacturer: Texas Instruments; PartNumber: UA78L15ACLPE3; Iout(Max)(A): 0.1; Iq(Typ)(mA): 6; SubFamily: Standard Voltage Regulator; Vin(Max)(V): 30; Vin(Min)(V): 17.5; Vout(Max)(V): 15; DatasheetVersion: SLVS010S; PackageVersion: revC, Oct-2001; PackageReference: LP3; PackageDescription: Plastic Cylindrical Package, Formed Lead Option (TO-92); Supplier 1: Digi-Key; Supplier Part Number 1: UA78L15ACLPE3-ND; Supplier 2: Farnell; Supplier Part Number 2: 1236597; Supplier 3: Newark; Supplier Part Number 3: 13M5631; Supplier 4: Newark; Supplier Part Number 4: 36K2998; Supplier 5: Mouser; Supplier Part Number 5: 595-UA78L15ACLPE3; Eco-Plan: Pb-Free (RoHS); Vout(Min)(V): 15; Mounting Technology: Through Hole; Code_JEDEC: TO-226-AA; ComponentLink1Description: Datasheet; ComponentLink1URL: http://www.ti.com/general/docs/lit/getliterature.tsp?genericPartNumber=UA78L15A&fileType=pdf; ComponentLink2Description: Package Specification; ComponentLink2URL: http://www.ti.com/litv/pdf/msot002a; ComponentLink3Description: URL Link1; ComponentLink3URL: Samples URL:http://www.ti.com/product/ua79m05#samples
footprint LP3 (TO, Flat Index; 3 In-Line, Formed Axial Leads; Body Dia. 4.8mm; Leads 0.56 x 0.41 mm (max))
pins: 1 OUT (power), 2 COM (power), 3 IN (power)

## UA78L15ACLPR
designator U?
Fixed Regulator with 17.5 to 30 V Input and 15 V Output, 0 to 125 degC, 3-Pin TO-92 (LP), Pb-Free (RoHS); Manufacturer: Texas Instruments; PartNumber: UA78L15ACLPR; Iout(Max)(A): 0.1; Iq(Typ)(mA): 6; SubFamily: Standard Voltage Regulator; Vin(Max)(V): 30; Vin(Min)(V): 17.5; Vout(Max)(V): 15; DatasheetVersion: SLVS010S; PackageVersion: revC, Oct-2001; PackageReference: LP3; PackageDescription: Plastic Cylindrical Package, Formed Lead Option (TO-92); Supplier 1: Digi-Key; Supplier Part Number 1: 296-31464-2-ND; Supplier 2: Digi-Key; Supplier Part Number 2: 296-31464-1-ND; Supplier 3: Newark; Supplier Part Number 3: 77C1883; Supplier 4: Mouser; Supplier Part Number 4: 595-UA78L15ACLPR; Eco-Plan: Pb-Free (RoHS); Vout(Min)(V): 15; Mounting Technology: Through Hole; Code_JEDEC: TO-226-AA; ComponentLink1Description: Datasheet; ComponentLink1URL: http://www.ti.com/general/docs/lit/getliterature.tsp?genericPartNumber=UA78L15A&fileType=pdf; ComponentLink2Description: Package Specification; ComponentLink2URL: http://www.ti.com/litv/pdf/msot002a; ComponentLink3Description: URL Link1; ComponentLink3URL: Samples URL:http://www.ti.com/product/ua79m05#samples
footprint LP3 (TO, Flat Index; 3 In-Line, Formed Axial Leads; Body Dia. 4.8mm; Leads 0.56 x 0.41 mm (max))
pins: 1 OUT (power), 2 COM (power), 3 IN (power)

## UA78L15ACLPRE3
designator U?
Fixed Regulator with 17.5 to 30 V Input and 15 V Output, 0 to 125 degC, 3-Pin TO-92 (LP), Pb-Free (RoHS); Manufacturer: Texas Instruments; PartNumber: UA78L15ACLPRE3; Iout(Max)(A): 0.1; Iq(Typ)(mA): 6; SubFamily: Standard Voltage Regulator; Vin(Max)(V): 30; Vin(Min)(V): 17.5; Vout(Max)(V): 15; DatasheetVersion: SLVS010S; PackageVersion: revC, Oct-2001; PackageReference: LP3; PackageDescription: Plastic Cylindrical Package, Formed Lead Option (TO-92); Supplier 1: Digi-Key; Supplier Part Number 1: UA78L15ACLPRE3-ND; Supplier 2: Newark; Supplier Part Number 2: 70K5851; Supplier 3: Mouser; Supplier Part Number 3: 595-UA78L15ACLPRE3; Eco-Plan: Pb-Free (RoHS); Vout(Min)(V): 15; Mounting Technology: Through Hole; Code_JEDEC: TO-226-AA; ComponentLink1Description: Datasheet; ComponentLink1URL: http://www.ti.com/general/docs/lit/getliterature.tsp?genericPartNumber=UA78L15A&fileType=pdf; ComponentLink2Description: Package Specification; ComponentLink2URL: http://www.ti.com/litv/pdf/msot002a; ComponentLink3Description: URL Link1; ComponentLink3URL: Samples URL:http://www.ti.com/product/ua79m05#samples
footprint LP3 (TO, Flat Index; 3 In-Line, Formed Axial Leads; Body Dia. 4.8mm; Leads 0.56 x 0.41 mm (max))
pins: 1 OUT (power), 2 COM (power), 3 IN (power)

## UA723CD
designator U?
Adjustable Regulator with 9.5 to 40 V Input and 2 to 37 V Output, 0 to 70 degC, 14-Pin SOIC (D), Green (RoHS & no Sb/Br); Manufacturer: Texas Instruments; PartNumber: UA723CD; Iout(Max)(A): 0.15; Iq(Typ)(mA): 4; Vin(Max)(V): 40; Vin(Min)(V): 9.5; Vout(Max)(V): 37; Vout(Min)(V): 2; DatasheetVersion: SLVS057D; PackageVersion: revM, Jun-2011; PackageReference: D14; PackageDescription: 14-Pin Plastic Small Outline Integrated Circuit, 8.7 x 3.9 mm, Pitch 1.27 mm Pitch; Supplier 1: Digi-Key; Supplier Part Number 1: 296-11102-5-ND; Supplier 2: Farnell; Supplier Part Number 2: 1460965; Supplier 3: Newark; Supplier Part Number 3: 35K1830; Supplier 4: Mouser; Supplier Part Number 4: 595-UA723CD; Eco-Plan: Green (RoHS & no Sb/Br); Mounting Technology: Surface Mount; Code_JEDEC: MS-012AB; ComponentLink1Description: Datasheet; ComponentLink1URL: http://www.ti.com/general/docs/lit/getliterature.tsp?genericPartNumber=UA723&fileType=pdf; ComponentLink2Description: Package Specification; ComponentLink2URL: http://www.ti.com/lit/ml/mpds177g/mpds177g.pdf; ComponentLink3Description: URL Link1; ComponentLink3URL: Samples URL:http://www.ti.com/product/ua723#samples
footprint D14_N (SOIC, 14-Leads, Body 8.7x3.9mm, Pitch 1.27mm, IPC Medium Density)
footprint D14_L (SOIC, 14-Leads, Body 8.7x3.9mm, Pitch 1.27mm, IPC High Density)
footprint D14_M (SOIC, 14-Leads, Body 8.7x3.9mm, Pitch 1.27mm, IPC Low Density)
part A pins: 2 CURR LIM (in), 3 CURR SENS, 4 IN- (in), 5 IN+ (in), 6 REF (out), 7 VCC- (power), 9 VZ, 10 OUTPUT (power), 11 VC (power), 12 VCC+ (power), 13 FREQ COMP
part B pins: 1 NC, 8 NC, 14 NC

## UA723CDE4
designator U?
Adjustable Regulator with 9.5 to 40 V Input and 2 to 37 V Output, 0 to 70 degC, 14-Pin SOIC (D), Green (RoHS & no Sb/Br); Manufacturer: Texas Instruments; PartNumber: UA723CDE4; Iout(Max)(A): 0.15; Iq(Typ)(mA): 4; Vin(Max)(V): 40; Vin(Min)(V): 9.5; Vout(Max)(V): 37; Vout(Min)(V): 2; DatasheetVersion: SLVS057D; PackageVersion: revM, Jun-2011; PackageReference: D14; PackageDescription: 14-Pin Plastic Small Outline Integrated Circuit, 8.7 x 3.9 mm, Pitch 1.27 mm Pitch; Supplier 1: Digi-Key; Supplier Part Number 1: UA723CDE4-ND; Supplier 2: Newark; Supplier Part Number 2: 37K4704; Supplier 3: Mouser; Supplier Part Number 3: 595-UA723CDE4; Eco-Plan: Green (RoHS & no Sb/Br); Mounting Technology: Surface Mount; Code_JEDEC: MS-012AB; ComponentLink1Description: Datasheet; ComponentLink1URL: http://www.ti.com/general/docs/lit/getliterature.tsp?genericPartNumber=UA723&fileType=pdf; ComponentLink2Description: Package Specification; ComponentLink2URL: http://www.ti.com/lit/ml/mpds177g/mpds177g.pdf; ComponentLink3Description: URL Link1; ComponentLink3URL: Samples URL:http://www.ti.com/product/ua723#samples
footprint D14_N (SOIC, 14-Leads, Body 8.7x3.9mm, Pitch 1.27mm, IPC Medium Density)
footprint D14_L (SOIC, 14-Leads, Body 8.7x3.9mm, Pitch 1.27mm, IPC High Density)
footprint D14_M (SOIC, 14-Leads, Body 8.7x3.9mm, Pitch 1.27mm, IPC Low Density)
part A pins: 2 CURR LIM (in), 3 CURR SENS, 4 IN- (in), 5 IN+ (in), 6 REF (out), 7 VCC- (power), 9 VZ, 10 OUTPUT (power), 11 VC (power), 12 VCC+ (power), 13 FREQ COMP
part B pins: 1 NC, 8 NC, 14 NC

## UA723CDG4
designator U?
Adjustable Regulator with 9.5 to 40 V Input and 2 to 37 V Output, 0 to 70 degC, 14-Pin SOIC (D), Green (RoHS & no Sb/Br); Manufacturer: Texas Instruments; PartNumber: UA723CDG4; Iout(Max)(A): 0.15; Iq(Typ)(mA): 4; Vin(Max)(V): 40; Vin(Min)(V): 9.5; Vout(Max)(V): 37; Vout(Min)(V): 2; DatasheetVersion: SLVS057D; PackageVersion: revM, Jun-2011; PackageReference: D14; PackageDescription: 14-Pin Plastic Small Outline Integrated Circuit, 8.7 x 3.9 mm, Pitch 1.27 mm Pitch; Supplier 1: Digi-Key; Supplier Part Number 1: UA723CDG4-ND; Supplier 2: Newark; Supplier Part Number 2: 41M6389; Supplier 3: Mouser; Supplier Part Number 3: 595-UA723CDG4; Eco-Plan: Green (RoHS & no Sb/Br); Mounting Technology: Surface Mount; Code_JEDEC: MS-012AB; ComponentLink1Description: Datasheet; ComponentLink1URL: http://www.ti.com/general/docs/lit/getliterature.tsp?genericPartNumber=UA723&fileType=pdf; ComponentLink2Description: Package Specification; ComponentLink2URL: http://www.ti.com/lit/ml/mpds177g/mpds177g.pdf; ComponentLink3Description: URL Link1; ComponentLink3URL: Samples URL:http://www.ti.com/product/ua723#samples
footprint D14_N (SOIC, 14-Leads, Body 8.7x3.9mm, Pitch 1.27mm, IPC Medium Density)
footprint D14_L (SOIC, 14-Leads, Body 8.7x3.9mm, Pitch 1.27mm, IPC High Density)
footprint D14_M (SOIC, 14-Leads, Body 8.7x3.9mm, Pitch 1.27mm, IPC Low Density)
part A pins: 2 CURR LIM (in), 3 CURR SENS, 4 IN- (in), 5 IN+ (in), 6 REF (out), 7 VCC- (power), 9 VZ, 10 OUTPUT (power), 11 VC (power), 12 VCC+ (power), 13 FREQ COMP
part B pins: 1 NC, 8 NC, 14 NC

## UA723CDR
designator U?
Adjustable Regulator with 9.5 to 40 V Input and 2 to 37 V Output, 0 to 70 degC, 14-Pin SOIC (D), Green (RoHS & no Sb/Br); Manufacturer: Texas Instruments; PartNumber: UA723CDR; Iout(Max)(A): 0.15; Iq(Typ)(mA): 4; Vin(Max)(V): 40; Vin(Min)(V): 9.5; Vout(Max)(V): 37; Vout(Min)(V): 2; DatasheetVersion: SLVS057D; PackageVersion: revM, Jun-2011; PackageReference: D14; PackageDescription: 14-Pin Plastic Small Outline Integrated Circuit, 8.7 x 3.9 mm, Pitch 1.27 mm Pitch; Supplier 1: Digi-Key; Supplier Part Number 1: 296-11102-2-ND; Supplier 2: Digi-Key; Supplier Part Number 2: 296-11102-1-ND; Supplier 3: Digi-Key; Supplier Part Number 3: 296-11102-6-ND; Supplier 4: Newark; Supplier Part Number 4: 77C1848; Supplier 5: Mouser; Supplier Part Number 5: 595-UA723CDR; Eco-Plan: Green (RoHS & no Sb/Br); Mounting Technology: Surface Mount; Code_JEDEC: MS-012AB; ComponentLink1Description: Datasheet; ComponentLink1URL: http://www.ti.com/general/docs/lit/getliterature.tsp?genericPartNumber=UA723&fileType=pdf; ComponentLink2Description: Package Specification; ComponentLink2URL: http://www.ti.com/lit/ml/mpds177g/mpds177g.pdf; ComponentLink3Description: URL Link1; ComponentLink3URL: Samples URL:http://www.ti.com/product/ua723#samples
footprint D14_N (SOIC, 14-Leads, Body 8.7x3.9mm, Pitch 1.27mm, IPC Medium Density)
footprint D14_L (SOIC, 14-Leads, Body 8.7x3.9mm, Pitch 1.27mm, IPC High Density)
footprint D14_M (SOIC, 14-Leads, Body 8.7x3.9mm, Pitch 1.27mm, IPC Low Density)
part A pins: 2 CURR LIM (in), 3 CURR SENS, 4 IN- (in), 5 IN+ (in), 6 REF (out), 7 VCC- (power), 9 VZ, 10 OUTPUT (power), 11 VC (power), 12 VCC+ (power), 13 FREQ COMP
part B pins: 1 NC, 8 NC, 14 NC